# EAGLE library part LM2678 (library Aquarius)
LM2678 SIMPLE SWITCHER® High Efficiency 5A Step-Down Voltage Regulator
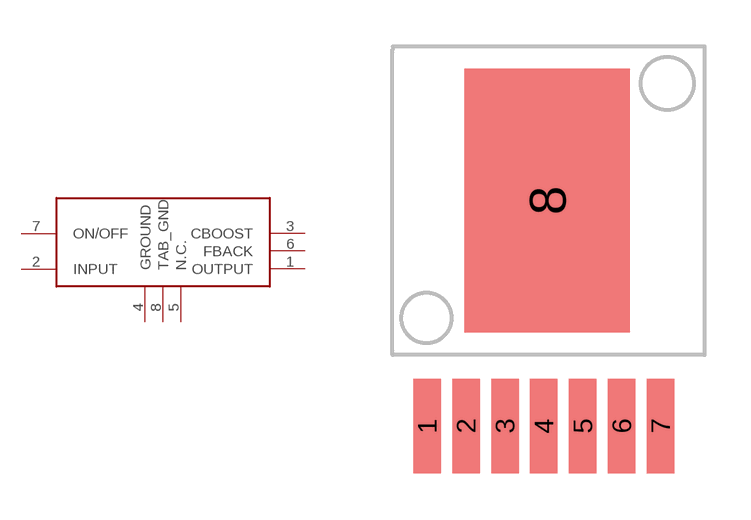
[diagram p0: symbol with the pads of TO-PMOD7; footprint TO-PMOD7]

Designator prefix -

## LM2678KTW0007B  [TO-PMOD7]
1  OUTPUT
2  INPUT
3  CBOOST
4  GROUND
5  N.C.
6  FBACK
7  ON/OFF
8  TAB_GND

## Footprint TO-PMOD7 (pad centres in mm)
smd 0.89 x 3.06: 1 -3.88,-7.3; 2 -2.62,-7.3; 3 -1.36,-7.3; 4 -0.1,-7.3; 5 1.16,-7.3; 6 2.42,-7.3; 7 3.68,-7.3
smd 5.35 x 8.54: 8 0.01,0